# EAGLE library part 71-12SP-2DS (library switch-grayhill)
Rotary Switch Grayhill 71 Series, 12 Pos, 1 Pole, 2 Deck
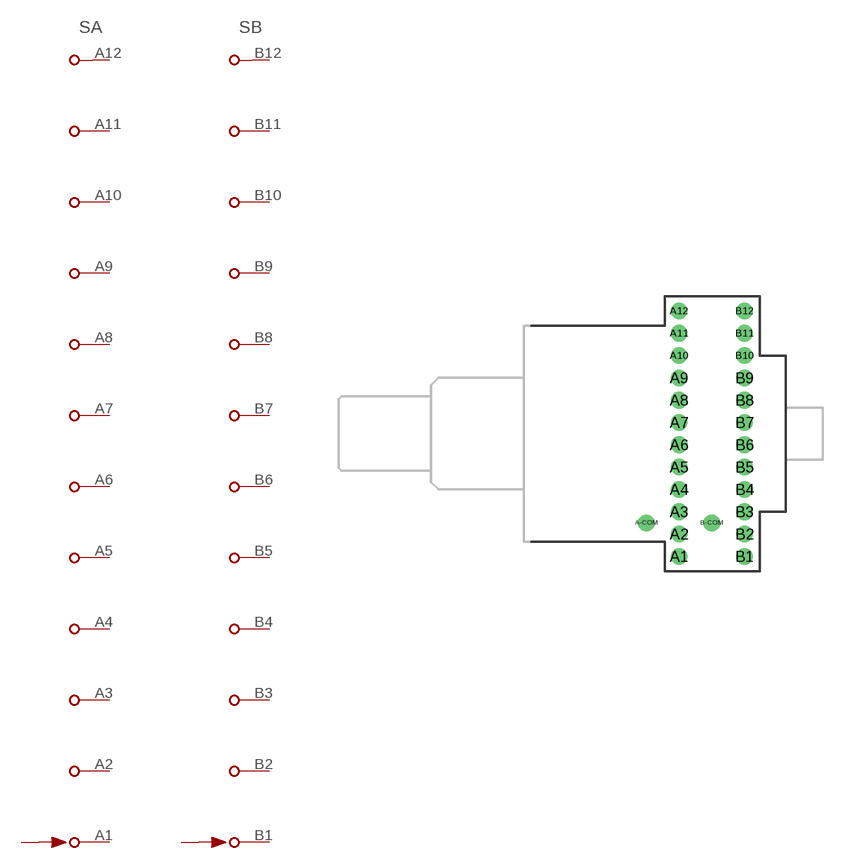
[diagram p9: symbol with the pads of 71-12-2D-2C; footprint 71-12-2D-2C]

Designator prefix S; gates A=71-12-PS B=71-12-PS

## 71-12SP-2DS  [71-12-2D-2C]
A1  A:1  pas
A2  A:2  pas
A3  A:3  pas
A4  A:4  pas
A5  A:5  pas
A6  A:6  pas
A7  A:7  pas
A8  A:8  pas
A9  A:9  pas
A10  A:10  pas
A11  A:11  pas
A12  A:12  pas
A-COM  A:COM  pas
B1  B:1  pas
B2  B:2  pas
B3  B:3  pas
B4  B:4  pas
B5  B:5  pas
B6  B:6  pas
B7  B:7  pas
B8  B:8  pas
B9  B:9  pas
B10  B:10  pas
B11  B:11  pas
B12  B:12  pas
B-COM  B:COM  pas

## Footprint 71-12-2D-2C (pad centres in mm)
Grayhill 71 Series
drill 0.813 pad 1.422: A1 2.794,-10.477; A2 2.794,-8.572; A3 2.794,-6.668; A4 2.794,-4.763; A5 2.794,-2.857; A6 2.794,-0.953; A7 2.794,0.953; A8 2.794,2.857; A9 2.794,4.763; A10 2.794,6.668; A11 2.794,8.572; A12 2.794,10.477; A-COM 0,-7.62; B1 8.382,-10.477; B2 8.382,-8.572; B3 8.382,-6.668; B4 8.382,-4.763; B5 8.382,-2.857; B6 8.382,-0.953; B7 8.382,0.953; B8 8.382,2.857; B9 8.382,4.763; B10 8.382,6.668; B11 8.382,8.572; B12 8.382,10.477; B-COM 5.588,-7.62